# Altium schematic symbol library Conn,FFC,Top,50 Pin,0.5mm.Schlib: 1 symbol
Pins are listed as number, name and electrical type; pins without a type are passive.

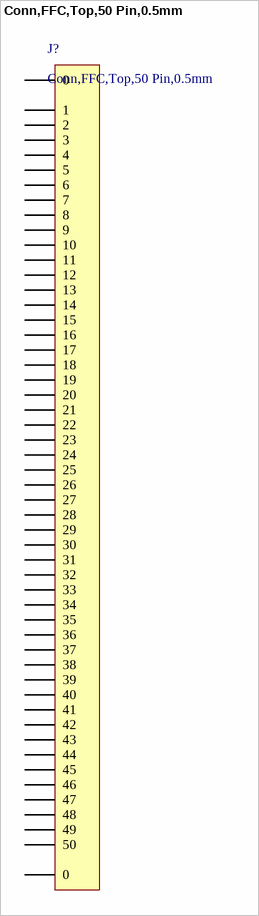
[diagram p0: symbol Conn,FFC,Top,50 Pin,0.5mm]

## Conn,FFC,Top,50 Pin,0.5mm
designator J?
50 Position FFC, FPC Connector Contacts, Top 0.020" (0.50mm) Surface Mount, Right Angle
pins: 0, 0, 1, 2, 3, 4, 5, 6, 7, 8, 9, 10, 11, 12, 13, 14, 15, 16, 17, 18, 19, 20, 21, 22, 23, 24, 25, 26, 27, 28, 29, 30, 31, 32, 33, 34, 35, 36, 37, 38, 39, 40, 41, 42, 43, 44, 45, 46, 47, 48, 49, 50